# Altium schematic symbol library AX5043-1-TW30.SchLib: 1 symbol
Pins are listed as number, name and electrical type; pins without a type are passive.

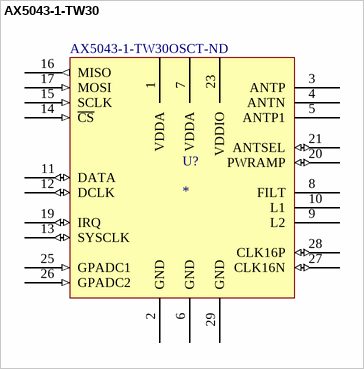
[diagram p0: symbol AX5043-1-TW30]

## AX5043-1-TW30
designator U?  Supplier Part Number 1: AX5043-1-TW30OSCT-ND
AX5043 transceiver; Supplier 1: Digi-Key
footprint QFN50P500X500X90_HS-29N (QFN, 28-Leads, Body 5.00x5.00mm, Pitch 0.50mm, Thermal Pad 3.25x3.25mm, IPC Medium Density)
pins: 1 VDDA (power), 2 GND (power), 3 ANTP, 4 ANTN, 5 ANTP1 (power), 6 GND (power), 7 VDDA (power), 8 FILT, 9 L2, 10 L1, 11 DATA (io), 12 DCLK (io), 13 SYSCLK (io), 14 ~{CS} (in), 15 SCLK (in), 16 MISO (out), 17 MOSI (in), 19 IRQ (io), 20 PWRAMP (io), 21 ANTSEL (io), 23 VDDIO (power), 25 GPADC1 (in), 26 GPADC2 (in), 27 CLK16N (io), 28 CLK16P (io), 29 GND (power)